# Altium schematic symbol library RSX_Diodes.SchLib: 2 symbols
Pins are listed as number, name and electrical type; pins without a type are passive.

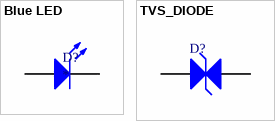
[diagram p0: symbols Blue LED to TVS_DIODE]

## Blue LED
designator D?
footprint LTST-C171TBKT
pins: 1 A, 2 K

## TVS_DIODE
designator D?  (value not drawn)
TVS Diode; Published: 8-Jun-2000; LatestRevisionDate: 17-Jul-2002; LatestRevisionNote: Re-released for DXP Platform.; PackageVersion: Sep-1996; PackageReference: SMC; Publisher: Altium Limited; PackageDescription: DO-214-AB/SMC; 2 C-Bend Leads; Body 7.9 x 5.9 mm, inc. leads (LxW); Code_JEDEC: DO-214-AB
footprint SMBJ54A-13-F
pins: 1 A, 2 K